# Altium schematic symbol library TMAG5231A2DQDMRR.SchLib: 1 symbol
Pins are listed as number, name and electrical type; pins without a type are passive.

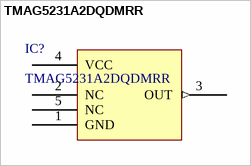
[diagram p0: symbol TMAG5231A2DQDMRR]

## TMAG5231A2DQDMRR
designator IC?
Low-power, low-voltage (1.65 V to 5.5 V) Hall-effect switch 4-X2SON -40 to 125; Manufacturer_Name: Texas Instruments; Copyright: Copyright (C) 2026 Ultra Librarian. All rights reserved.; Manufacturer_Part_Number: TMAG5231A2DQDMRR; Datasheet: https://www.ti.com/lit/gpn/tmag5231; RefDes: RefDes; Type: Type
footprint X2SON_31H1DQDMRR_TEX
pins: 1 GND (power), 2 NC, 3 OUT (out), 4 VCC (power), 5 NC